# EAGLE library part LDO-MAX16910 (library eagleLib v2)
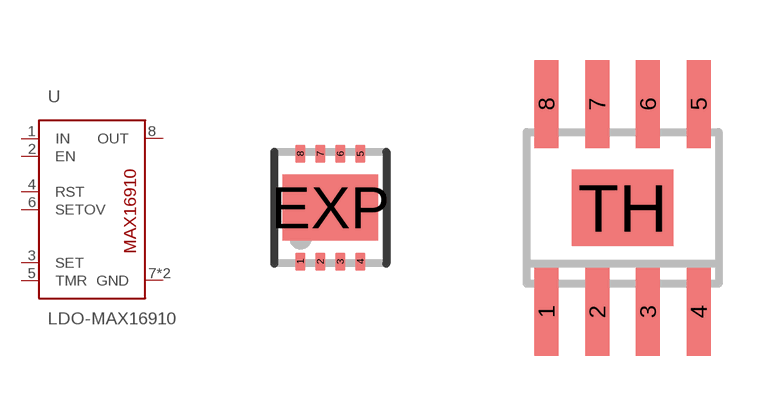
[diagram p29: symbol with the pads of DFN8-3X3; footprints DFN8-3X3, SO08-TH]

Designator prefix -

## LDO-MAX16910-DFN  [DFN8-3X3]
1  IN
2  EN
3  SET
4  RST
5  TMR
6  SETOV
7  GND
8  OUT
EXP  GND

## LDO-MAX16910  [SO08-TH]
1  IN
2  EN
3  SET
4  RST
5  TMR
6  SETOV
7  GND
8  OUT
TH  GND

## Footprint DFN8-3X3 (pad centres in mm)
DD Package 8-Lead Plastic DFN (3mm × 3mm) Source: http://cds.linear.com/docs/Datasheet/623012fb.pdf
smd 0.25 x 0.45: 1 -0.75,-1.35; 2 -0.25,-1.35; 3 0.25,-1.35; 4 0.75,-1.35; 5 0.75,1.35; 6 0.25,1.35; 7 -0.25,1.35; 8 -0.75,1.35
smd 2.38 x 1.65: EXP 0,0

## Footprint SO08-TH (pad centres in mm)
smd 0.6 x 2.2: 1 -1.905,-2.6; 2 -0.635,-2.6; 3 0.635,-2.6; 4 1.905,-2.6; 5 1.905,2.6; 6 0.635,2.6; 7 -0.635,2.6; 8 -1.905,2.6
smd 2.54 x 1.905: TH 0,0